# Altium integrated library Start_Lib.IntLib: 13 symbols
Pins are listed as number, name and electrical type; pins without a type are passive.

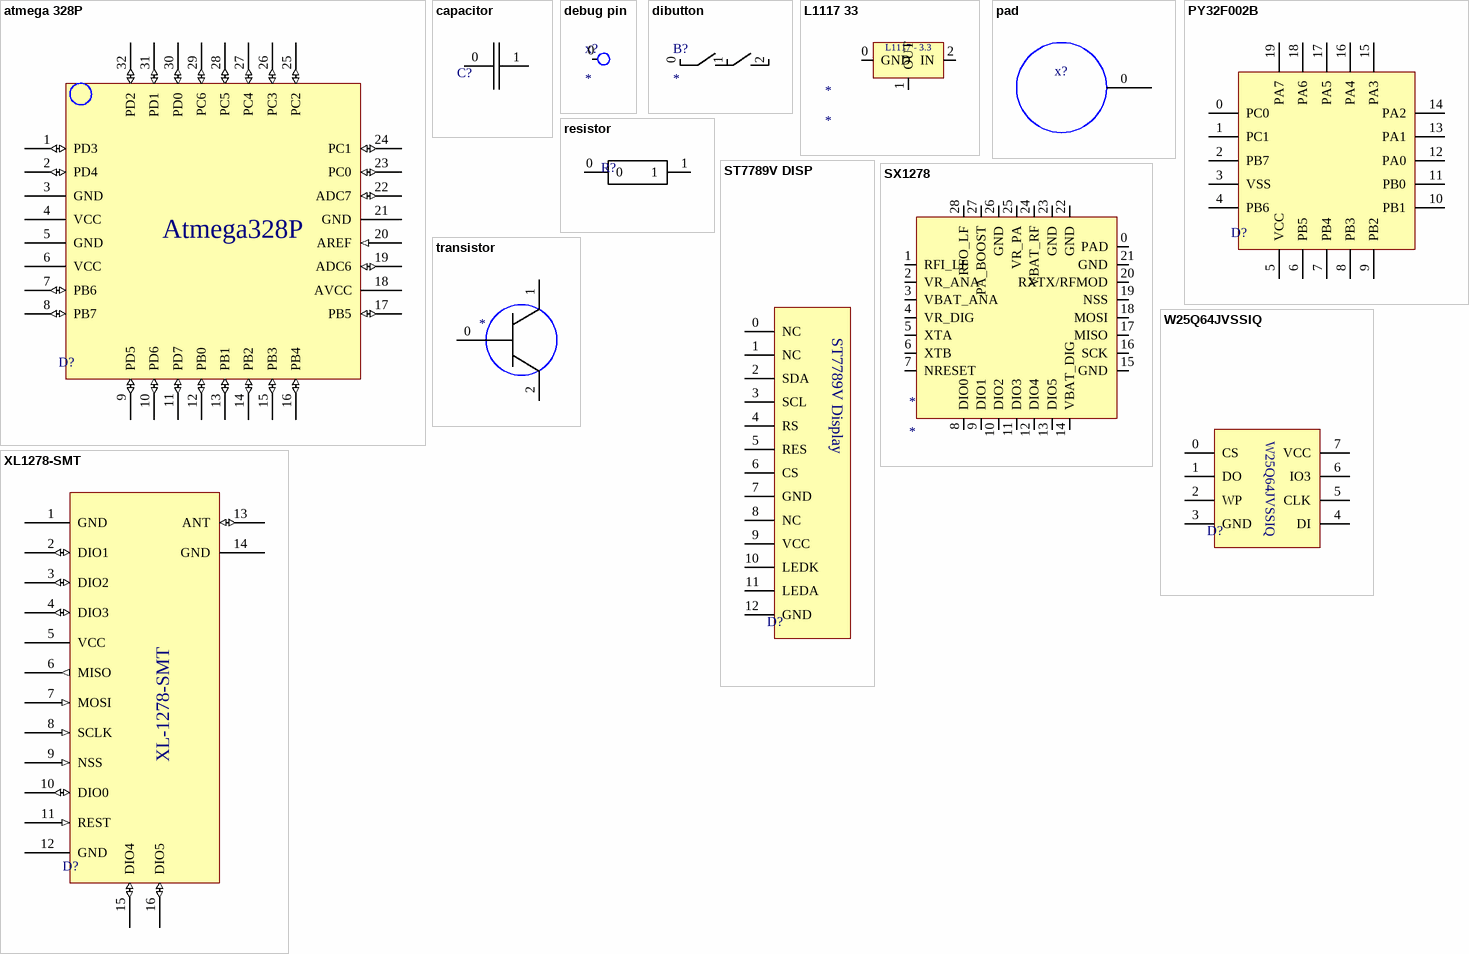
[diagram p0: symbols atmega 328P to XL1278-SMT]

## atmega 328P
designator D?
footprint TQFP 32
pins: 1 PD3 (io), 2 PD4 (io), 3 GND (power), 4 VCC (power), 5 GND (power), 6 VCC (power), 7 PB6 (io), 8 PB7 (io), 9 PD5 (io), 10 PD6 (io), 11 PD7 (io), 12 PB0 (io), 13 PB1 (io), 14 PB2 (io), 15 PB3 (io), 16 PB4 (io), 17 PB5 (io), 18 AVCC (power), 19 ADC6 (io), 20 AREF (in), 21 GND (power), 22 ADC7 (io), 23 PC0 (io), 24 PC1 (io), 25 PC2 (io), 26 PC3 (io), 27 PC4 (io), 28 PC5 (io), 29 PC6 (io), 30 PD0 (io), 31 PD1 (io), 32 PD2 (io)
text: Atmega328P

## capacitor
designator C?
footprint capacitor 4.7 uF
footprint 0402 cap
footprint 0603 cap
footprint 0805 cap
pins: 0, 1

## debug pin
designator x?
footprint debugpin
pins: 0

## dibutton
designator B?
footprint dibutton
pins: 0, 1, 2

## L1117 33
designator *
footprint TO-252 DPACK
pins: 0 GND, 1 OUT, 2 IN
text: L1117 - 3.3

## pad
designator x?
footprint pad
pins: 0 in

## PY32F002B
designator D?
footprint QFN20
footprint TSSOP20
pins: 0 PC0, 1 PC1, 2 PB7, 3 VSS, 4 PB6, 5 VCC, 6 PB5, 7 PB4, 8 PB3, 9 PB2, 10 PB1, 11 PB0, 12 PA0, 13 PA1, 14 PA2, 15 PA3, 16 PA4, 17 PA5, 18 PA6, 19 PA7

## resistor
designator R?
footprint 0402 res
footprint 0603 res
footprint 0805 res
pins: 0, 1

## ST7789V DISP
designator D?
footprint ST7789 display 0,7
pins: 0 NC, 1 NC, 2 SDA, 3 SCL, 4 RS, 5 RES, 6 CS, 7 GND, 8 NC, 9 VCC, 10 LEDK, 11 LEDA, 12 GND
text: ST7789V Display

## SX1278
designator *
footprint QFN28
pins: 0 PAD, 1 RFI_LF, 2 VR_ANA, 3 VBAT_ANA, 4 VR_DIG, 5 XTA, 6 XTB, 7 NRESET, 8 DIO0, 9 DIO1, 10 DIO2, 11 DIO3, 12 DIO4, 13 DIO5, 14 VBAT_DIG, 15 GND, 16 SCK, 17 MISO, 18 MOSI, 19 NSS, 20 RXTX/RFMOD, 21 GND, 22 GND, 23 GND, 24 VBAT_RF, 25 VR_PA, 26 GND, 27 PA_BOOST, 28 RFO_LF

## transistor
designator *
pins: 0, 1, 2

## W25Q64JVSSIQ
designator D?
footprint sop8(5.2 x 5.2)
pins: 0 CS, 1 DO, 2 WP, 3 GND, 4 DI, 5 CLK, 6 IO3, 7 VCC

## XL1278-SMT
designator D?
footprint XL 1278
pins: 1 GND (power), 2 DIO1 (io), 3 DIO2 (io), 4 DIO3 (io), 5 VCC (power), 6 MISO (out), 7 MOSI (in), 8 SCLK (in), 9 NSS (in), 10 DIO0 (io), 11 REST (in), 12 GND (power), 13 ANT (io), 14 GND (power), 15 DIO4 (io), 16 DIO5 (io)
text: XL-1278-SMT